# Altium footprint library HANDS-FREE-PCBLIB-V2.0.PcbLib: 236 footprints (part 16 of 16)
Each footprint in its own frame and in the unit in brackets; x right, y up, seen from the top. Pads: shape width x height; smd on the part's side, far side on the other; paste and mask are expansions set on the pad; w line width, h text height; cw(c..) or ccw(c..) is an arc to the next point about the centre after c.
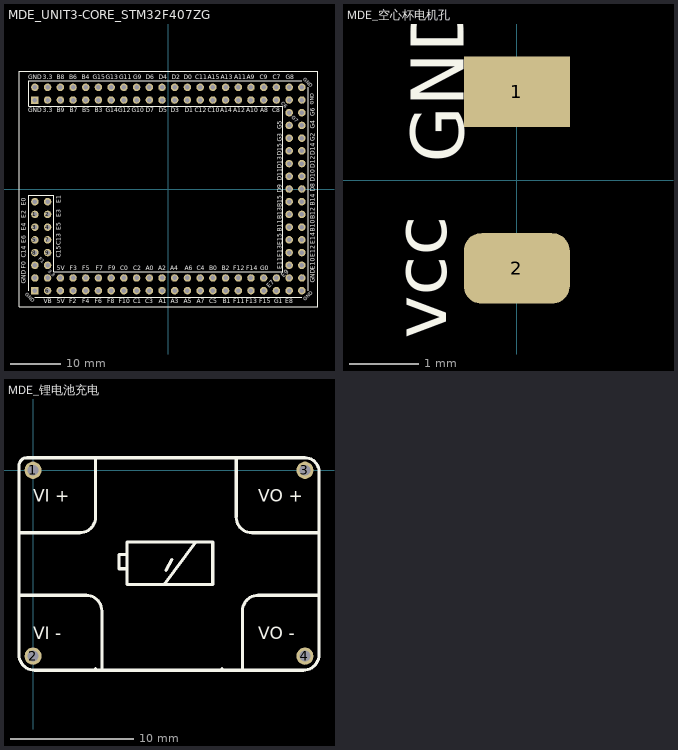
[diagram p15: the footprints below, top view; thin cyan lines are the x and y axes]

## MDE_UNIT3-CORE_STM32F407ZG [mm]
pads (126):
  round 1.5 hole 0.9: 1(-26.67,-5.08) 2(-24.13,-5.08) 3(-26.67,-7.62) 4(-24.13,-7.62) 5(-26.67,-10.16) 6(-24.13,-20.32) 7(-24.13,-10.16) 8(-26.67,-12.7) 9(-24.13,-12.7) 10(-26.67,-15.24) 11(-24.13,-15.24) 12(-19.05,-20.32) 13(-19.05,-17.78) 14(-16.51,-20.32) 15(-16.51,-17.78) 18(-13.97,-20.32) 19(-13.97,-17.78) 20(-11.43,-20.32) 21(-11.43,-17.78) 22(-8.89,-20.32) 26(-8.89,-17.78) 27(-6.35,-20.32) 28(-6.35,-17.78) 29(-3.81,-20.32) 34(-3.81,-17.78) 35(-1.27,-20.32) 36(-1.27,-17.78) 37(1.27,-20.32) 40(1.27,-17.78) 41(3.81,-20.32) 42(3.81,-17.78) 43(6.35,-20.32) 44(6.35,-17.78) 45(8.89,-20.32) 46(8.89,-17.78) 47(11.43,-20.32) 48(11.43,-17.78) 49(13.97,-20.32) 50(13.97,-17.78) 53(16.51,-20.32) 54(16.51,-17.78) 55(19.05,-20.32) 56(19.05,-17.78) 57(21.59,-20.32) 58(21.59,-17.78) 59(24.13,-20.32) 60(24.13,-17.78) 63(26.67,-15.24) 64(24.13,-15.24) 65(26.67,-12.7) 66(24.13,-12.7) 67(26.67,-10.16) 68(24.13,-10.16) 69(26.67,-7.62) 70(24.13,-7.62) 73(26.67,-5.08) 74(24.13,-5.08) 75(26.67,-2.54) 76(24.13,-2.54) 77(26.67,0) 78(24.13,0) 79(26.67,2.54) 80(24.13,2.54) 81(26.67,5.08) 82(24.13,5.08) 85(26.67,7.62) 86(24.13,7.62) 87(26.67,10.16) 88(24.13,10.16) 89(26.67,12.7) 90(24.13,12.7) 91(26.67,15.24) 92(24.13,15.24) 93(24.13,20.32) 96(24.13,17.78) 97(21.59,20.32) 98(21.59,17.78) 99(19.05,20.32) 100(19.05,17.78) 101(16.51,20.32) 102(16.51,17.78) 103(13.97,20.32) 104(13.97,17.78) 105(11.43,20.32) 109(11.43,17.78) 110(8.89,20.32) 111(8.89,17.78) 112(6.35,20.32) 113(6.35,17.78) 114(3.81,20.32) 115(3.81,17.78) 116(1.27,20.32) 117(1.27,17.78) 118(-1.27,20.32) 119(-1.27,17.78) 122(-3.81,20.32) 123(-3.81,17.78) 124(-6.35,20.32) 125(-6.35,17.78) 126(-8.89,20.32) 127(-8.89,17.78) 128(-11.43,20.32) 129(-11.43,17.78) 132(-13.97,20.32) 133(-13.97,17.78) 134(-16.51,20.32) 135(-16.51,17.78) 136(-19.05,20.32) 137(-19.05,17.78) 139(-21.59,20.32) 140(-21.59,17.78) 141(-26.67,-2.54) 142(-24.13,-2.54) 200(-21.59,-17.78) 201(-21.59,-20.32) 202(-24.13,20.32) 203(-24.13,17.78) 206(-26.67,-17.78) 207(-24.13,-17.78) 210(26.67,-20.32) 211(26.67,-17.78) 212(26.67,17.78) 213(26.67,20.32) 214(-26.67,20.32)
  rect 1.5x1.5 hole 0.9: 208(-26.67,-20.32) 215(-26.67,17.78)
Top Overlay:
  lines w0.2: -27.94,-20.32 -27.94,-16.51 -27.94,-1.27 -22.86,-1.27 -22.86,-16.51 22.885,-16.51 ; -26.67,-21.59 26.67,-21.59 ; 22.86,-16.51 22.86,16.51 -27.94,16.51 -27.94,21.59 26.67,21.59 ; 27.94,-20.32 27.94,-16.51 27.94,16.51 27.94,20.32
  lines w0.203: -29.845,-23.495 29.845,-23.495 29.845,23.495 -29.845,23.495 -29.845,-23.495
  text "GND" at -27.991,15.367 h0.89
  text "GND" at -28.727,-21.133 h0.76
  text "GND" at 26.873,21.793 h0.76
  text "GND" at 29.058,16.866 h0.76
  text "GND" at 27.381,-22.428 h0.76
  text "GND" at -27.991,21.971 h0.89
  text "B6" at -19.837,21.971 h0.89
  text "B7" at -19.736,15.367 h0.89
  text "B4" at -17.297,21.971 h0.89
  text "B5" at -17.196,15.367 h0.89
  text "B8" at -22.276,21.971 h0.89
  text "B9" at -22.301,15.367 h0.89
  text "G15" at -15.138,21.971 h0.89
  text "B3" at -14.707,15.367 h0.89
  text "G14" at -12.548,15.367 h0.89
  text "G13" at -12.522,21.971 h0.89
  text "G12" at -9.982,15.367 h0.89
  text "G11" at -9.804,21.971 h0.89
  text "G10" at -7.366,15.367 h0.89
  text "G9" at -7.061,21.971 h0.89
  text "D6" at -4.547,21.971 h0.89
  text "D7" at -4.547,15.367 h0.89
  text "D4" at -1.93,21.971 h0.89
  text "D5" at -1.88,15.367 h0.89
  text "D2" at 0.635,21.971 h0.89
  text "D3" at 0.508,15.367 h0.89
  text "D1" at 3.302,15.367 h0.89
  text "D0" at 3.073,21.971 h0.89
  text "C11" at 5.359,21.971 h0.89
  text "C12" at 5.258,15.367 h0.89
  text "C10" at 7.874,15.367 h0.89
  text "A15" at 7.849,21.971 h0.89
  text "A13" at 10.49,21.971 h0.89
  text "A14" at 10.338,15.367 h0.89
  text "A11" at 13.157,21.971 h0.89
  text "A12" at 12.954,15.367 h0.89
  text "A9" at 15.672,21.971 h0.89
  text "A10" at 15.545,15.367 h0.89
  text "C9" at 18.212,21.971 h0.89
  text "A8" at 18.313,15.367 h0.89
  text "C7" at 20.904,21.971 h0.89
  text "C8" at 20.777,15.367 h0.89
  text "G8" at 23.419,21.971 h0.89
  text "C6" at 22.504,17.018 h0.76
  text "G7" at 24.536,14.224 h0.76
  text "G6" at 29.21,14.58 h0.89
  text "G4" at 29.21,12.04 h0.89
  text "G5" at 22.631,11.989 h0.89
  text "G3" at 22.631,9.474 h0.89
  text "G2" at 29.21,9.5 h0.89
  text "D15" at 22.631,6.604 h0.89
  text "D14" at 29.21,6.731 h0.89
  text "D13" at 22.631,4.089 h0.89
  text "D12" at 29.21,4.14 h0.89
  text "D11" at 22.631,1.676 h0.89
  text "D10" at 29.21,1.499 h0.89
  text "D9" at 22.631,-0.737 h0.89
  text "D8" at 29.21,-0.584 h0.89
  text "B15" at 22.631,-3.607 h0.89
  text "B14" at 29.21,-3.353 h0.89
  text "B13" at 22.631,-6.071 h0.89
  text "B12" at 29.21,-5.994 h0.89
  text "E0" at -28.448,-3.353 h0.89
  text "E1" at -21.539,-2.845 h0.89
  text "E2" at -28.448,-5.817 h0.89
  text "E3" at -21.539,-5.664 h0.89
  text "E4" at -28.448,-8.306 h0.89
  text "E5" at -21.539,-8.23 h0.89
  text "E6" at -28.448,-10.871 h0.89
  text "C13" at -21.539,-11.227 h0.89
  text "C14" at -28.448,-13.691 h0.89
  text "C15" at -21.539,-13.741 h0.89
  text "F0" at -28.448,-15.951 h0.89
  text "F1" at -25.959,-14.046 h0.76
  text "F2" at -19.787,-22.86 h0.89
  text "F3" at -19.736,-16.256 h0.89
  text "F4" at -17.196,-22.86 h0.89
  text "F5" at -17.221,-16.256 h0.89
  text "F6" at -14.732,-22.86 h0.89
  text "F7" at -14.554,-16.256 h0.89
  text "F8" at -12.192,-22.86 h0.89
  text "F9" at -12.04,-16.256 h0.89
  text "F10" at -9.957,-22.86 h0.89
  text "C0" at -9.627,-16.256 h0.89
  text "C1" at -6.985,-22.86 h0.89
  text "C2" at -7.061,-16.256 h0.89
  text "C3" at -4.572,-22.86 h0.89
  text "A0" at -4.547,-16.256 h0.89
  text "A2" at -2.007,-16.256 h0.89
  text "A1" at -1.88,-22.86 h0.89
  text "A3" at 0.483,-22.86 h0.89
  text "A4" at 0.406,-16.256 h0.89
  text "A5" at 3.048,-22.86 h0.89
  text "A6" at 3.251,-16.256 h0.89
  text "A7" at 5.664,-22.86 h0.89
  text "C4" at 5.639,-16.256 h0.89
  text "C5" at 8.153,-22.86 h0.89
  text "B0" at 8.128,-16.256 h0.89
  text "B1" at 10.82,-22.86 h0.89
  text "B2" at 10.693,-16.256 h0.89
  text "F11" at 12.929,-22.86 h0.89
  text "F12" at 12.979,-16.256 h0.89
  text "F13" at 15.418,-22.86 h0.89
  text "F14" at 15.519,-16.256 h0.89
  text "F15" at 18.136,-22.86 h0.89
  text "G0" at 18.364,-16.256 h0.89
  text "G1" at 21.107,-22.86 h0.89
  text "E7" at 20.117,-19.812 h0.89
  text "E8" at 23.393,-22.86 h0.89
  text "E9" at 23.038,-17.704 h0.89
  text "E10" at 29.21,-16.104 h0.89
  text "E11" at 22.631,-16.078 h0.89
  text "E12" at 29.21,-13.589 h0.89
  text "E13" at 22.631,-13.665 h0.89
  text "E14" at 29.21,-11.074 h0.89
  text "E15" at 22.631,-11.201 h0.89
  text "B10" at 29.21,-8.585 h0.89
  text "B11" at 22.631,-8.56 h0.89
  text "5V" at -22.352,-22.86 h0.89
  text "VB" at -24.892,-22.86 h0.89
  text "5V" at -22.276,-16.256 h0.89
  text "3.3" at -24.13,-16.485 h0.76
  text "GND" at -28.448,-18.948 h0.89
  text "3.3" at -25.121,21.971 h0.89
  text "3.3" at -25.121,15.367 h0.89
  text "GND" at 29.21,-18.771 h0.89

## MDE_空心杯电机孔 [mil]
pads (2):
  rect 60x40 smd: 1(0,50)
  rrect50% 60x40 smd: 2(0,-50)
Top Overlay:
  text "GND" at -30,10 h30
  text "vcc" at -40,-90 h30

## MDE_锂电池充电 [mil]
pads (4):
  round 55 hole 35: 1(0,0) 2(0,-595) 3(870,0) 4(870,-595)
Top Overlay:
  lines w10: -45,-400 170,-400 cw(c170,-450) 220,-450 220,-640 ; -45,-200 150,-200 ccw(c150,-150) 200,-150 200,40 ; 195,-640 ccw(c195,-635) 200,-635 ; 300,-315 275,-315 275,-270 300,-270 ; 420,-365 520,-230 ; 425,-320 445,-285 ; 605,-635 ccw(c610,-635) 610,-640 ; 650,40 650,-150 ccw(c700,-150) 700,-200 915,-200 ; 670,-640 670,-450 cw(c720,-450) 720,-400 915,-400 ; -45,-590 ccw(c5,-590) 5,-640 865,-640 ccw(c865,-590) 915,-590 915,-5 ccw(c870,-5) 870,40 0,40 -20,40 ccw(c-20,15) -45,15 -45,-590 ; 300,-365 575,-365 575,-230 300,-230 300,-365
  text "VO -" at 720,-540 h40
  text "VO +" at 720,-100 h40
  text "VI -" at 0,-540 h40
  text "VI +" at 0,-100 h40